# Altium footprint library Connectors.PcbLib: 2 footprints
Each footprint in its own frame and in the unit in brackets; x right, y up, seen from the top. Pads: shape width x height; smd on the part's side, far side on the other; paste and mask are expansions set on the pad; w line width, h text height; cw(c..) or ccw(c..) is an arc to the next point about the centre after c.
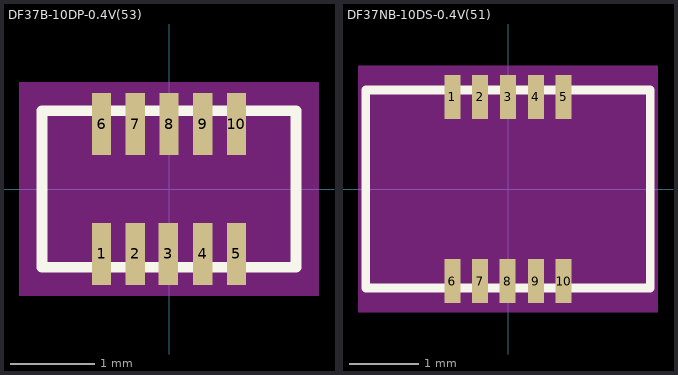
[diagram p0: the footprints below, top view; thin cyan lines are the x and y axes]

## DF37B-10DP-0.4V(53) [mm]
pads (10):
  rect 0.23x0.73 smd mask+0.076: 1(-0.8,-0.77) 2(-0.4,-0.77) 3(-0.007,-0.77) 4(0.4,-0.77) 5(0.8,-0.77) 6(-0.8,0.77) 7(-0.4,0.77) 8(0,0.77) 9(0.4,0.77) 10(0.8,0.77)
Top Overlay:
  lines w0.127: -1.506,-0.927 1.506,-0.927 1.506,0.927 -1.506,0.927 -1.506,-0.927
Keep-Out Layer:
  rectangle: -1.778,-1.27 1.778,1.27

## DF37NB-10DS-0.4V(51) [mm]
pads (10):
  rect 0.23x0.63 smd mask+0.076: 1(-0.8,1.325) 2(-0.4,1.325) 3(0,1.325) 4(0.4,1.325) 5(0.8,1.325) 6(-0.8,-1.325) 7(-0.4,-1.325) 8(-0.007,-1.325) 9(0.4,-1.325) 10(0.8,-1.325)
Top Overlay:
  lines w0.127: -2.046,-1.426 2.047,-1.426 2.047,1.426 -2.046,1.426 -2.046,-1.426
Keep-Out Layer:
  rectangle: -2.159,-1.778 2.159,1.778
3D body "DF37NB-10DS-0.4V.stp": height 1, standoff 0.02, extent -2.1,-1.49 2.12,1.49